# Altium footprint library PCB.PcbLib: 224 footprints (part 1 of 14)
Each footprint in its own frame and in the unit in brackets; x right, y up, seen from the top. Pads: shape width x height; smd on the part's side, far side on the other; paste and mask are expansions set on the pad; w line width, h text height; cw(c..) or ccw(c..) is an arc to the next point about the centre after c.
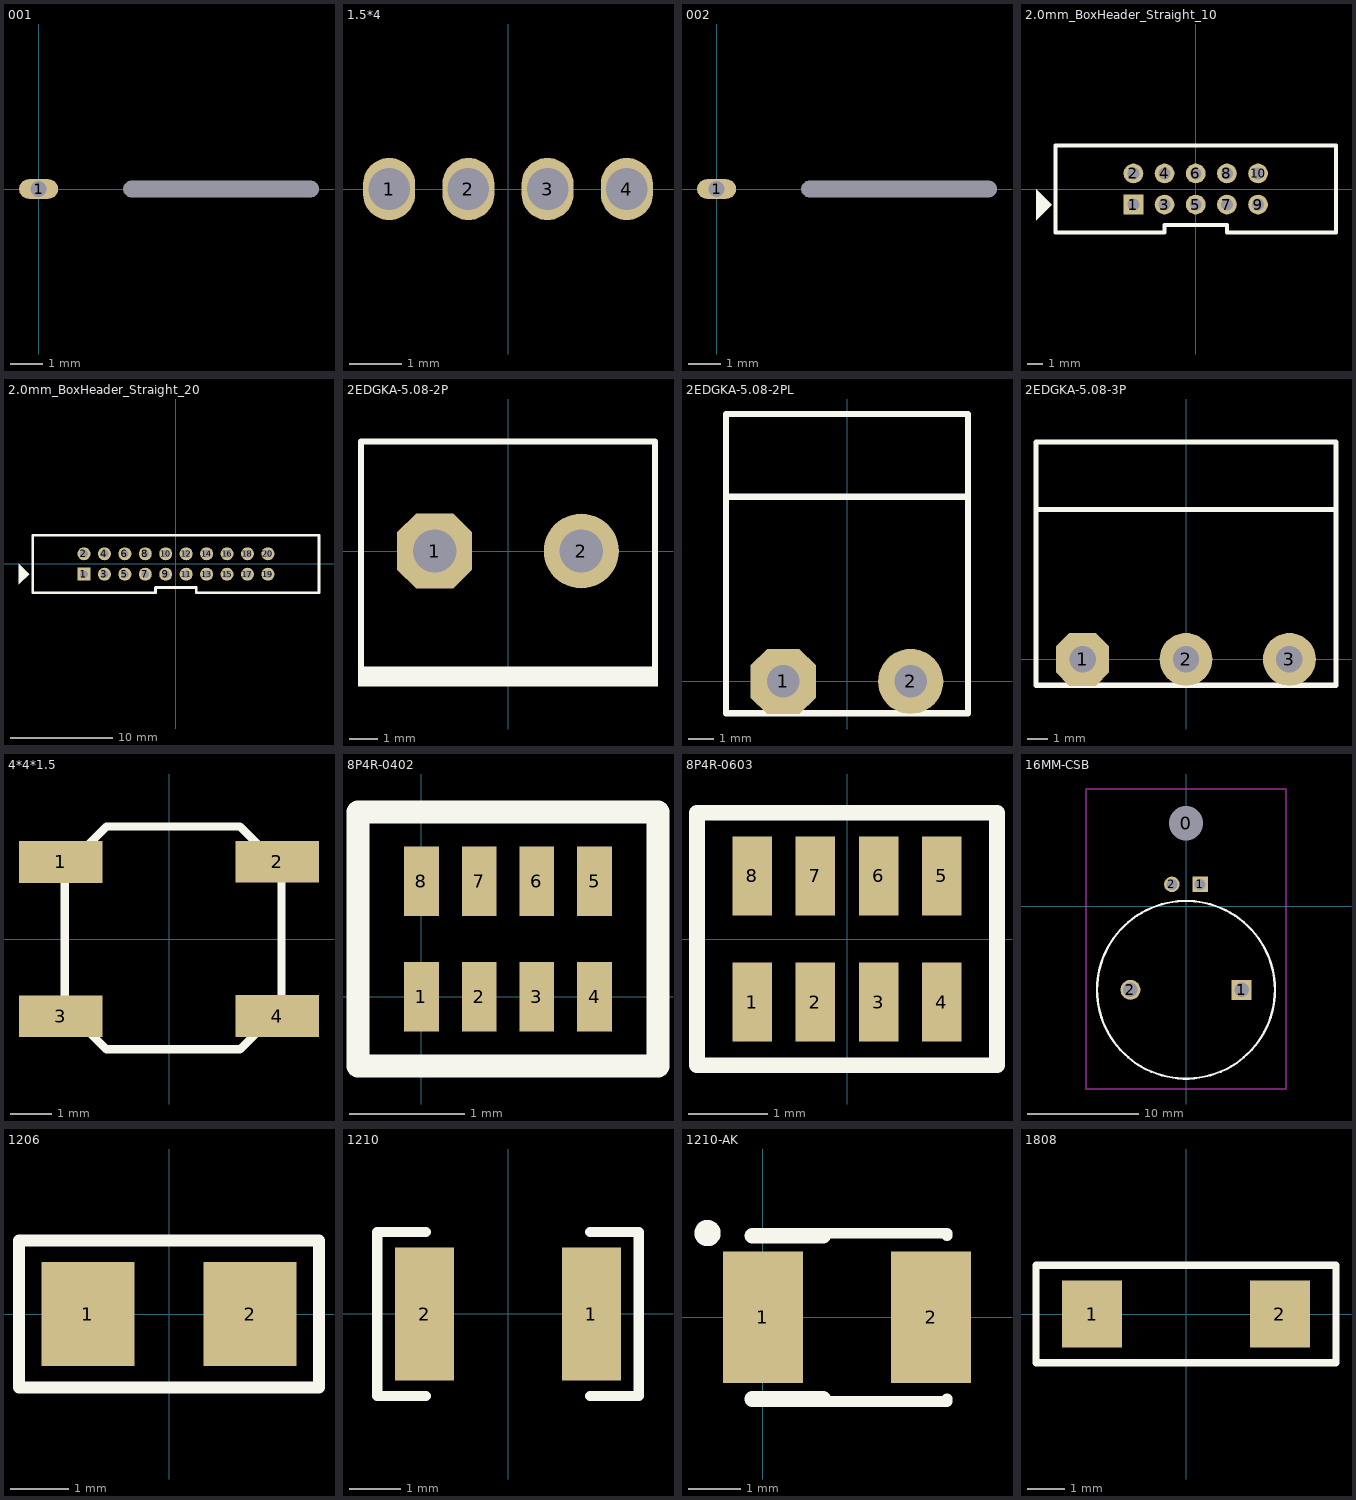
[diagram p0: the footprints below, top view; thin cyan lines are the x and y axes]

## 001 [mm]
pads (2):
  oval 1.2x0.6 hole 0.5: 1(0,0)
  round 0 hole 0.5 slot 6 at 0 deg: 2(5.6,0)

## 1.5*4 [mm]
pads (4):
  oval 1x1.2 hole 0.8: 1(-2.286,0) 2(-0.762,0) 3(0.762,0) 4(2.286,0)

## 002 [mm]
pads (2):
  oval 1.2x0.6 hole 0.5: 1(0,0)
  round 0 hole 0.5 slot 6 at 0 deg: 2(5.6,0)

## 2.0mm_BoxHeader_Straight_10 [mm]
pads (10):
  rect 1.27x1.27 hole 0.762: 1(-4,-1)
  round 1.27 hole 0.762: 2(-4,1) 3(-2,-1) 4(-2,1) 5(0,-1) 6(0,1) 7(2,-1) 8(2,1) 9(4,-1) 10(4,1)
Top Overlay:
  region: -9.25,-1 -10.25,0 -10.25,-2
  lines w0.254: -9,-2.8 -2,-2.8 -2,-2.3 2,-2.3 2,-2.8 9,-2.8 9,2.8 -9,2.8 -9,-2.8

## 2.0mm_BoxHeader_Straight_20 [mm]
pads (20):
  rect 1.27x1.27 hole 0.762: 1(-9,-1)
  round 1.27 hole 0.762: 2(-9,1) 3(-7,-1) 4(-7,1) 5(-5,-1) 6(-5,1) 7(-3,-1) 8(-3,1) 9(-1,-1) 10(-1,1) 11(1,-1) 12(1,1) 13(3,-1) 14(3,1) 15(5,-1) 16(5,1) 17(7,-1) 18(7,1) 19(9,-1) 20(9,1)
Top Overlay:
  region: -15.359,0.001 -14.359,-0.999 -15.359,-1.999
  lines w0.254: -14,-2.8 -2,-2.8 -2,-2.3 2,-2.3 2,-2.8 14,-2.8 14,2.8 -14,2.8 -14,-2.8

## 2EDGKA-5.08-2P [mm]
pads (2):
  oct 2.6x2.6 hole 1.5: 1(-2.54,0)
  round 2.6 hole 1.5: 2(2.54,0)
Top Overlay:
  rectangle: -5.2,-4.7 5.2,-4.1
  lines w0.2: -5.1,-4.1 5.1,-4.1 5.1,3.8 -5.1,3.8 -5.1,-4.1

## 2EDGKA-5.08-2PL [mm]
pads (2):
  oct 2.6x2.6 hole 1.3: 1(-2.54,0)
  round 2.6 hole 1.3: 2(2.54,0)
Top Overlay:
  lines w0.25: -4.826,7.366 4.826,7.366 ; -4.826,-1.27 4.826,-1.27 4.826,10.668 -4.826,10.668 -4.826,-1.27

## 2EDGKA-5.08-3P [mm]
pads (3):
  oct 2.6x2.6 hole 1.3: 1(-5.08,0)
  round 2.6 hole 1.3: 2(0,0) 3(5.08,0)
Top Overlay:
  lines w0.25: -7.366,7.366 7.366,7.366 ; -7.366,-1.27 -7.366,10.668 7.366,10.668 7.366,-1.27 -7.366,-1.27

## 4*4*1.5 [mm]
pads (4):
  rect 2x1 smd: 1(-2.6,1.85) 2(2.6,1.85) 3(-2.6,-1.85) 4(2.6,-1.85)
Top Overlay:
  lines w0.2: -2.5,-1.65 -1.5,-2.65 1.7,-2.65 2.7,-1.65 2.7,1.7 1.7,2.7 -1.5,2.7 -2.5,1.7 -2.5,-1.65

## 8P4R-0402 [mm]
pads (8):
  rect 0.3x0.6 smd: 1(0,0) 2(0.5,0) 3(1,0) 4(1.5,0) 5(1.5,1) 6(1,1) 7(0.5,1) 8(0,1)
Top Overlay:
  lines w0.2: -0.55,-0.6 -0.55,1.6 2.05,1.6 2.05,-0.6 -0.55,-0.6

## 8P4R-0603 [mm]
pads (8):
  rect 0.5x1 smd: 1(-1.2,-0.8) 2(-0.4,-0.8) 3(0.4,-0.8) 4(1.2,-0.8) 5(1.2,0.8) 6(0.4,0.8) 7(-0.4,0.8) 8(-1.2,0.8)
Top Overlay:
  lines w0.2: -1.9,-1.6 -1.9,1.6 1.9,1.6 1.9,-1.6 -1.9,-1.6

## 16MM-CSB [mm]
pads (5):
  round 3 hole 3.1: 0(0,7.5)
  rect 1.4x1.4 hole 1 unplated: 1(1.27,1.989)
  rect 1.8x1.8 hole 1.3: 1(5,-7.5)
  round 1.8 hole 1.3: 2(-5,-7.5)
  round 1.4 hole 1 unplated: 2(-1.27,1.989)
Top Overlay:
  circle w0.2: c0,-7.5 r8
Bottom Overlay:
  lines w0.2: -3.81,-1.364 3.81,-1.364 3.81,0.719 3.81,4.275 2.54,4.275 2.54,3.259 1.27,3.259 1.27,4.275 -1.27,4.275 -1.27,3.259 -2.54,3.259 -2.54,4.275 -3.81,4.275 ; -3.81,-1.313 -3.81,4.275 ; -2.921,4.275 -3.81,4.275
Keep-Out Layer:
  lines w0.2: -9,-16.428 -9,10.572 9,10.572 9,-16.428 -9,-16.428

## 1206 [mm] "3216mm"
pads (2):
  rect 1.6x1.8 smd: 1(-1.4,0) 2(1.4,0)
Top Overlay:
  lines w0.2: -2.591,-1.27 -2.591,1.27 2.591,1.27 2.591,-1.27 -2.591,-1.27

## 1210 [mm]
pads (2):
  rect 1.15x2.6 smd: 1(1.62,-0.002) 2(-1.63,-0.002)
Top Overlay:
  lines w0.2: -1.605,-1.602 -2.555,-1.602 -2.555,1.598 -1.605,1.598 ; 1.595,-1.602 2.545,-1.602 2.545,1.598 1.595,1.598

## 1210-AK [mm]
pads (2):
  rect 1.52x2.5 smd: 1(0,0) 2(3.2,0)
Top Overlay:
  circle w0.25: c-1.05,1.6 r0.125
  lines w0.2: -0.2,-1.6 3.5,-1.6 3.5,-1.55 ; -0.2,1.6 3.5,1.6 3.5,1.55
  lines w0.3: -0.2,-1.55 1.15,-1.55 ; -0.2,1.55 1.15,1.55

## 1808 [mm]
pads (2):
  rect 1.6x1.8 smd: 1(-2.5,0) 2(2.5,0)
Top Overlay:
  lines w0.2: -4,-1.3 4,-1.3 4,1.3 -4,1.3 -4,-1.3